# EAGLE library part 17EBH-015-S-AM-0-10 (library KVB-connectors)
15 Position D-Sub High Density Receptacle Female Sockets Connector Through Hole Right Angle Solder
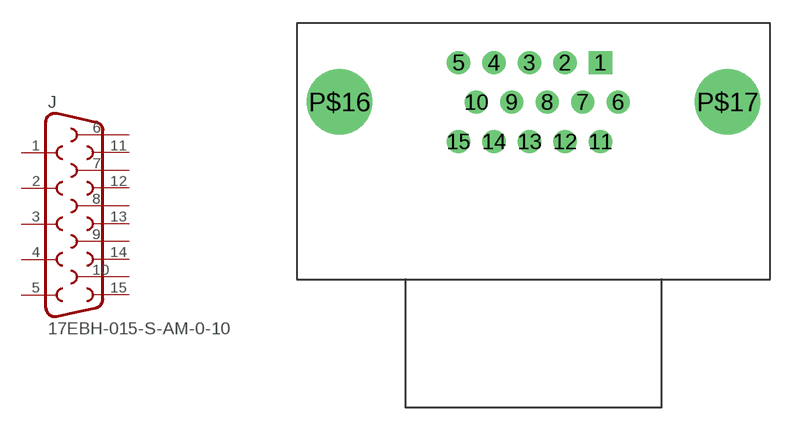
[diagram p13: symbol with the pads of 17EBH-015-S-AM-0-10; footprint 17EBH-015-S-AM-0-10]

Designator prefix J

## 17EBH-015-S-AM-0-10 (MAN-PART_NUM: 17EBH-015-S-AM-0-10; MANUFACTURER: Amphenol)  [17EBH-015-S-AM-0-10]
1  1  pas
2  2  pas
3  3  pas
4  4  pas
5  5  pas
6  6  pas
7  7  pas
8  8  pas
9  9  pas
10  10  pas
11  11  pas
12  12  pas
13  13  pas
14  14  pas
15  15  pas

## Footprint 17EBH-015-S-AM-0-10 (pad centres in mm)
drill 0.991 square: 1 4.318,2.54
drill 0.991: 2 2.032,2.54; 3 -0.254,2.54; 4 -2.54,2.54; 5 -4.826,2.54; 6 5.461,0; 7 3.175,0; 8 0.889,0; 9 -1.397,0; 10 -3.683,0; 11 4.318,-2.54; 12 2.032,-2.54; 13 -0.254,-2.54; 14 -2.54,-2.54; 15 -4.826,-2.54
drill 3.2: P$16 -12.497,0; P$17 12.497,0